# Altium schematic symbol library IC.SchLib: 114 symbols (part 2 of 2)
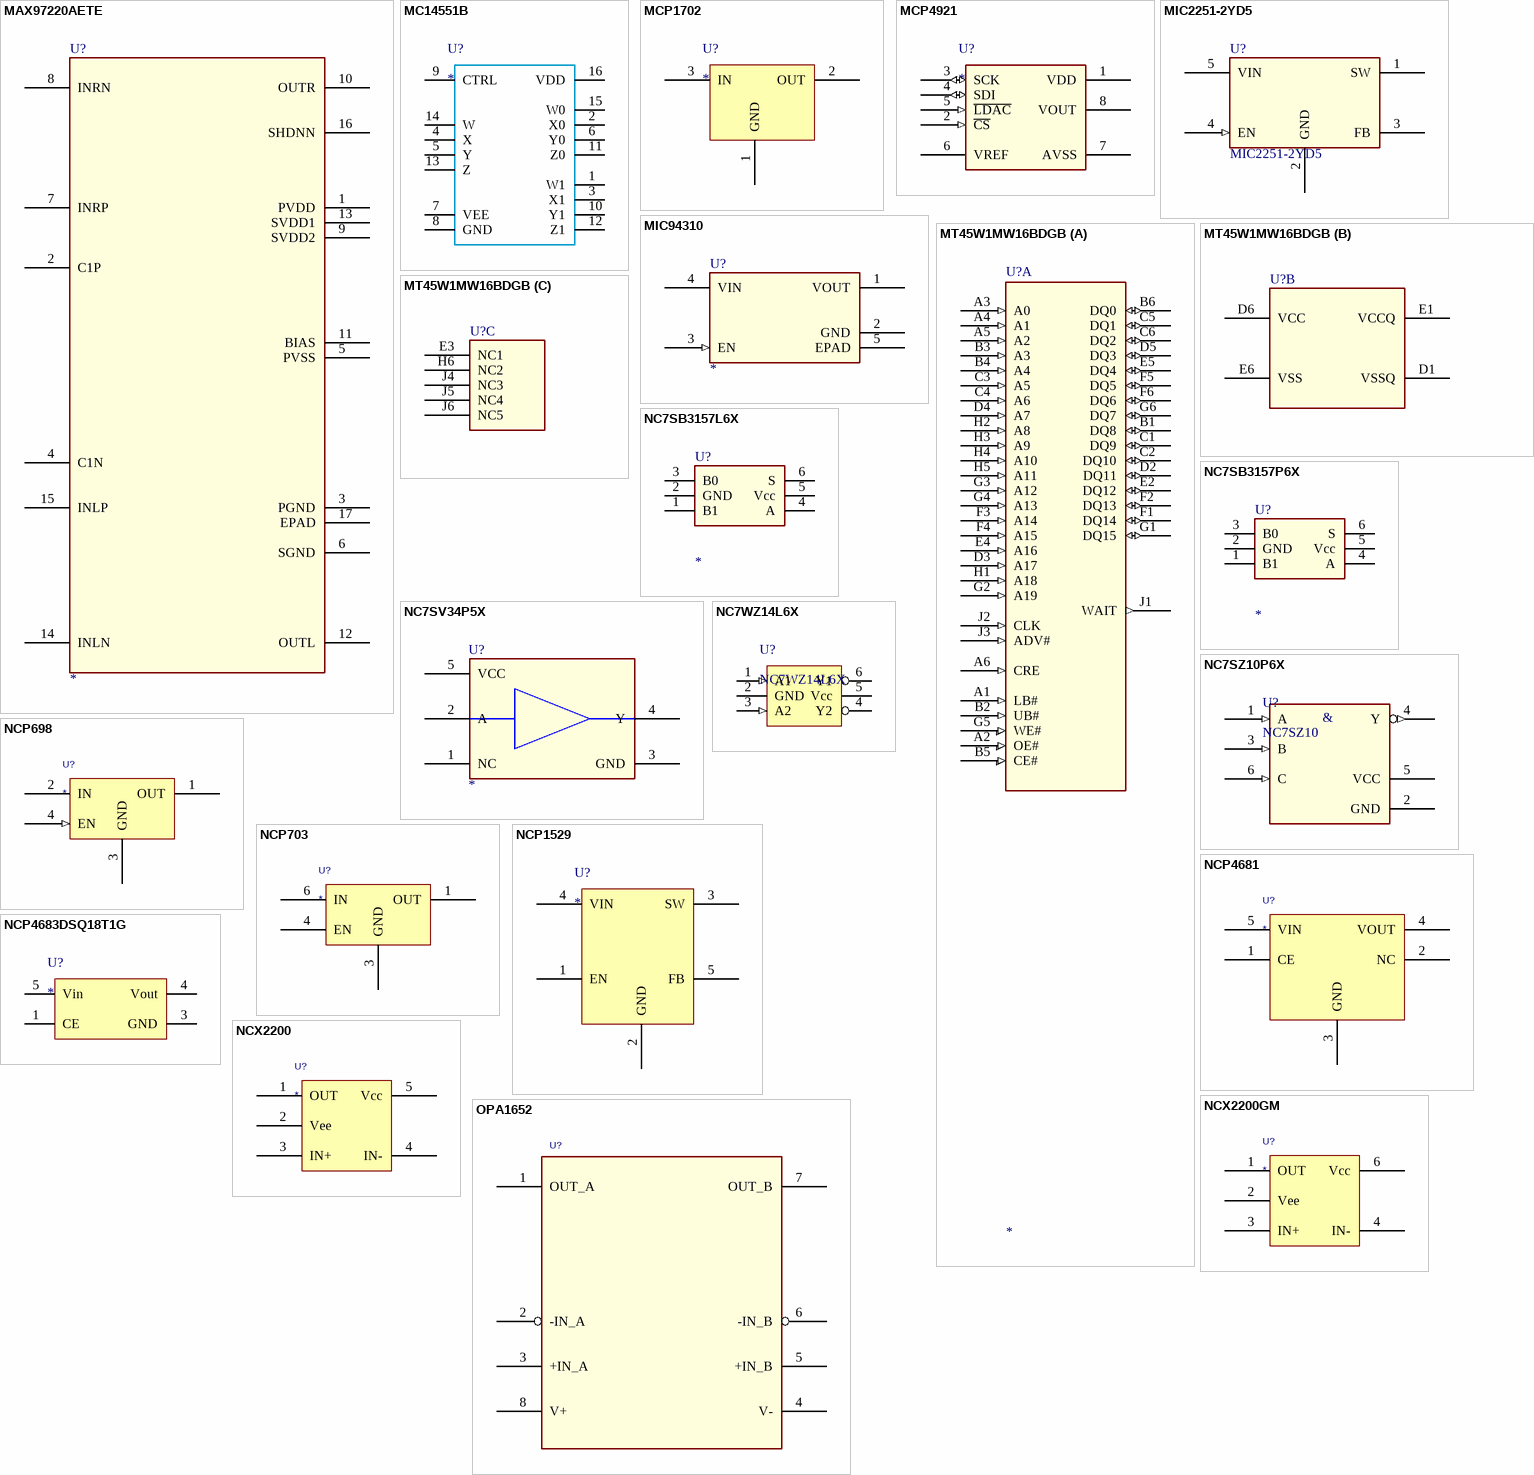
[diagram p22: symbols MAX97220AETE to OPA1652]

## MT45W1MW16BDGB
designator U?
SWAP_INFO: (S1+S2+S3); SPLIT_INST: TRUE
part A pins: A1 LB# (in), A2 OE# (in), A3 A0 (in), A4 A1 (in), A5 A2 (in), A6 CRE (in), B1 DQ8 (io), B2 UB# (in), B3 A3 (in), B4 A4 (in), B5 CE# (in), B6 DQ0 (io), C1 DQ9 (io), C2 DQ10 (io), C3 A5 (in), C4 A6 (in), C5 DQ1 (io), C6 DQ2 (io), D2 DQ11 (io), D3 A17 (in), D4 A7 (in), D5 DQ3 (io), E2 DQ12 (io), E4 A16 (in), E5 DQ4 (io), F1 DQ14 (io), F2 DQ13 (io), F3 A14 (in), F4 A15 (in), F5 DQ5 (io), F6 DQ6 (io), G1 DQ15 (io), G2 A19 (in), G3 A12 (in), G4 A13 (in), G5 WE# (in), G6 DQ7 (io), H1 A18 (in), H2 A8 (in), H3 A9 (in), H4 A10 (in), H5 A11 (in), J1 WAIT (out), J2 CLK (in), J3 ADV# (in)
part B pins: D1 VSSQ (power), D6 VCC (power), E1 VCCQ (power), E6 VSS (power)
part C pins: E3 NC1, H6 NC2, J4 NC3, J5 NC4, J6 NC5

## NC7SB3157L6X
designator U?
IC SWITCH SPDT SC70-6
pins: 1 B1, 2 GND (power), 3 B0, 4 A, 5 Vcc (power), 6 S

## NC7SB3157P6X
designator U?
IC SWITCH SPDT SC70-6
pins: 1 B1, 2 GND (power), 3 B0, 4 A, 5 Vcc (power), 6 S

## NC7SV34P5X
designator U?
pins: 1 NC, 2 A, 3 GND, 4 Y, 5 VCC

## NC7SZ10P6X
designator U?, comment NC7SZ10
3-Input NAND Gate
pins: 1 A (in), 2 GND (power), 3 B (in), 4 Y (out), 5 VCC (power), 6 C (in)
text: &

## NC7WZ14L6X
designator U?
pins: 1 A1 (in), 2 GND (power), 3 A2 (in), 4 Y2, 5 Vcc (power), 6 Y1

## NCP698
designator U?
150 mA, Ultra-Low Quiescent  Current, LDO Voltage Regulator
pins: 1 OUT (power), 2 IN (power), 3 GND (power), 4 EN (in)

## NCP703
designator U?
300 mA, Ultra-Low Quiescent  Current, IQ 12 A, Ultra-Low  Noise, LDO Voltage Regulator
pins: 1 OUT, 3 GND, 4 EN, 6 IN

## NCP1529
designator U?
pins: 1 EN, 2 GND, 3 SW, 4 VIN, 5 FB

## NCP4681
designator U?
pins: 1 CE, 2 NC, 3 GND, 4 VOUT, 5 VIN

## NCP4683DSQ18T1G
designator U?
pins: 1 CE, 3 GND, 4 Vout, 5 Vin

## NCX2200
designator U?
Low voltage comparator
pins: 1 OUT, 2 Vee, 3 IN+, 4 IN-, 5 Vcc

## NCX2200GM
designator U?
Low voltage comparator
pins: 1 OUT, 2 Vee, 3 IN+, 4 IN-, 6 Vcc (power)

## OPA1652
designator U?
IC, LOW NOISE AND DISTORTION GP FET-INPUT AUDIO OPAMP 5x6.5mm, VSOP8, RoHS
pins: 1 OUT_A, 2 -IN_A, 3 +IN_A, 4 V-, 5 +IN_B, 6 -IN_B, 7 OUT_B, 8 V+

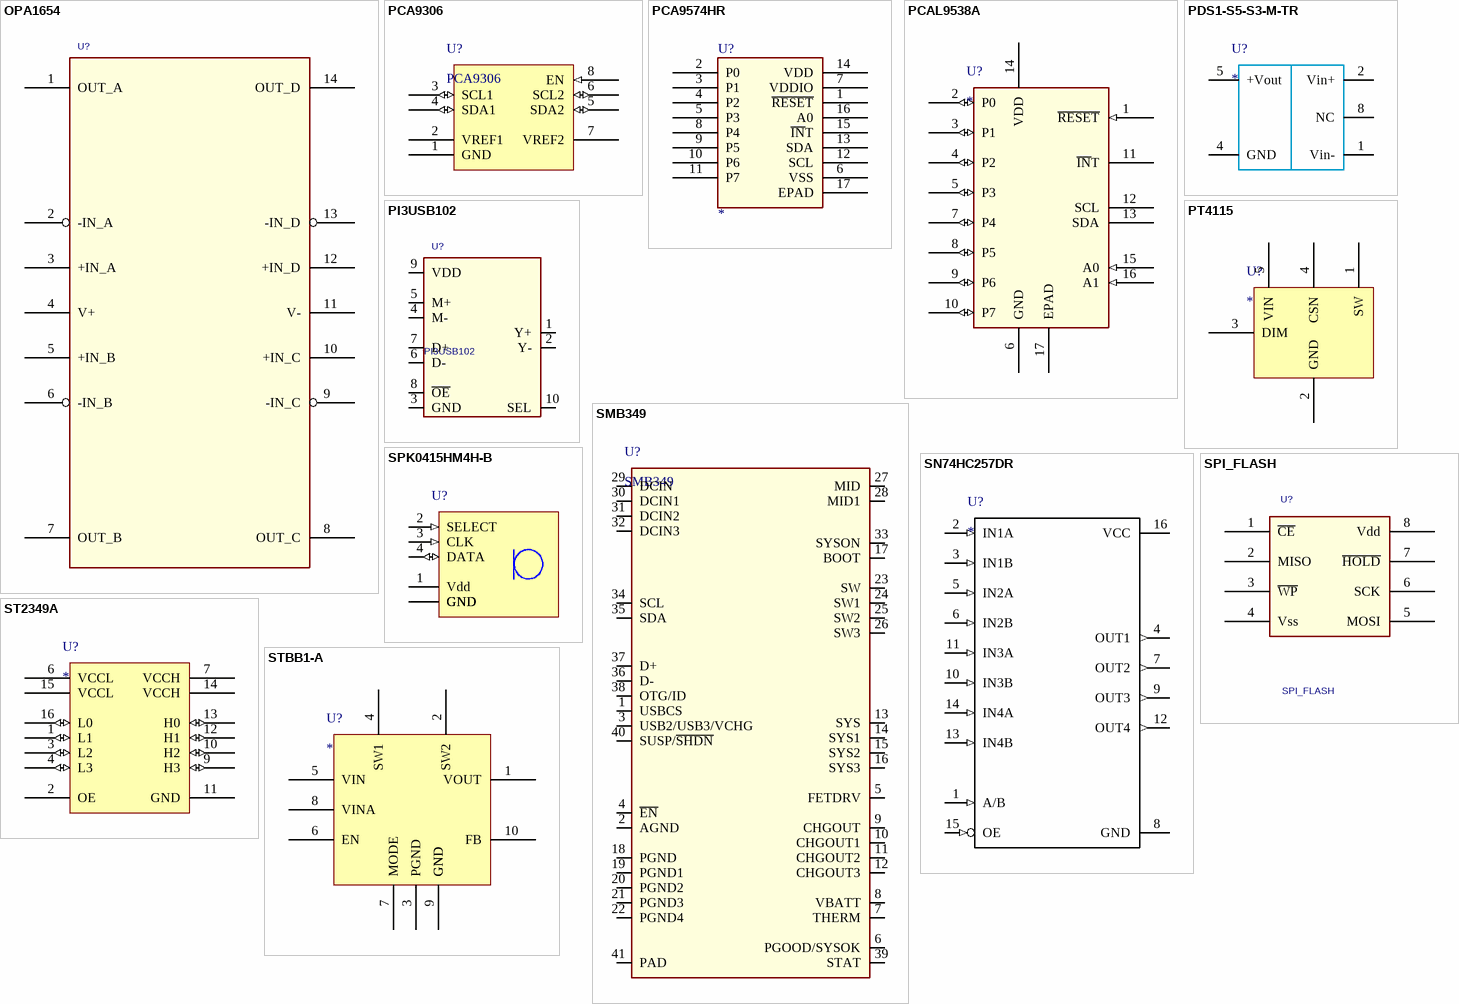
[diagram p16: symbols OPA1654 to STBB1-A]

## OPA1654
designator U?
IC, LOW NOISE AND DISTORTION GP FET-INPUT AUDIO OPAMP 5x6.5mm, 14-TSSOP, RoHS
pins: 1 OUT_A, 2 -IN_A, 3 +IN_A, 4 V+, 5 +IN_B, 6 -IN_B, 7 OUT_B, 8 OUT_C, 9 -IN_C, 10 +IN_C, 11 V-, 12 +IN_D, 13 -IN_D, 14 OUT_D

## PCA9306
designator U?
pins: 1 GND (power), 2 VREF1 (power), 3 SCL1 (io), 4 SDA1 (io), 5 SDA2 (io), 6 SCL2 (io), 7 VREF2 (power), 8 EN (in)

## PCA9574HR
designator U?
pins: 1 ~{RESET}, 2 P0, 3 P1, 4 P2, 5 P3, 6 VSS, 7 VDDIO, 8 P4, 9 P5, 10 P6, 11 P7, 12 SCL, 13 SDA, 14 VDD, 15 ~{IN}T, 16 A0, 17 EPAD

## PCAL9538A
designator U?
I/O EXPANDER
pins: 1 ~{RESET} (in), 2 P0 (io), 3 P1 (io), 4 P2 (io), 5 P3 (io), 6 GND, 7 P4 (io), 8 P5 (io), 9 P6 (io), 10 P7 (io), 11 ~{IN}T (oc), 12 SCL (oc), 13 SDA (oc), 14 VDD, 15 A0 (in), 16 A1 (in), 17 EPAD

## PDS1-S5-S3-M-TR
designator U?
pins: 1 Vin-, 2 Vin+, 4 GND, 5 +Vout, 8 NC

## PI3USB102
designator U?
CRITICAL: YES; CLASS: IC; ROHS: YES
pins: 1 Y+, 2 Y-, 3 GND, 4 M-, 5 M+, 6 D-, 7 D+, 8 ~{OE}, 9 VDD, 10 SEL

## PT4115
designator U?
PT4115, 30V 1.2A Step-Down LED Drive
pins: 1 SW, 2 GND, 3 DIM, 4 CSN, 5 VIN

## SMB349
designator U?
pins: 1 USBCS, 2 AGND, 3 USB2/USB3/VCHG, 4 ~{EN}, 5 FETDRV, 6 PGOOD/SYSOK, 7 THERM, 8 VBATT, 9 CHGOUT, 10 CHGOUT1, 11 CHGOUT2, 12 CHGOUT3, 13 SYS, 14 SYS1, 15 SYS2, 16 SYS3, 17 BOOT, 18 PGND, 19 PGND1, 20 PGND2, 21 PGND3, 22 PGND4, 23 SW, 24 SW1, 25 SW2, 26 SW3, 27 MID, 28 MID1, 29 DCIN, 30 DCIN1, 31 DCIN2, 32 DCIN3, 33 SYSON, 34 SCL, 35 SDA, 36 D-, 37 D+, 38 OTG/ID, 39 STAT, 40 SUSP/~{SHDN}, 41 PAD

## SN74HC257DR
designator U?
pins: 1 A/B (in), 2 IN1A (in), 3 IN1B (in), 4 OUT1 (out), 5 IN2A (in), 6 IN2B (in), 7 OUT2 (out), 8 GND, 9 OUT3 (out), 10 IN3B (in), 11 IN3A (in), 12 OUT4 (out), 13 IN4B (in), 14 IN4A (in), 15 OE (in), 16 VCC

## SPI_FLASH
designator U?
pins: 1 ~{CE}, 2 MISO, 3 ~{WP}, 4 Vss, 5 MOSI, 6 SCK, 7 ~{HOLD}, 8 Vdd

## SPK0415HM4H-B
designator U?  (value not drawn)
Digital High-SNR SiSonic  TM  Microphone
pins: 1 Vdd (power), 2 SELECT (in), 3 CLK (in), 4 DATA (io), 5 GND, 6 GND, 7 GND, 8 GND

## ST2349A
designator U?
pins: 1 L1 (io), 2 OE, 3 L2 (io), 4 L3 (io), 6 VCCL (power), 7 VCCH (power), 9 H3 (io), 10 H2 (io), 11 GND, 12 H1 (io), 13 H0 (io), 14 VCCH (power), 15 VCCL (power), 16 L0 (io)

## STBB1-A
designator U?
pins: 1 VOUT, 2 SW2, 3 PGND, 4 SW1, 5 VIN, 6 EN, 7 MODE, 8 VINA, 9 GND, 10 FB, 11 GND

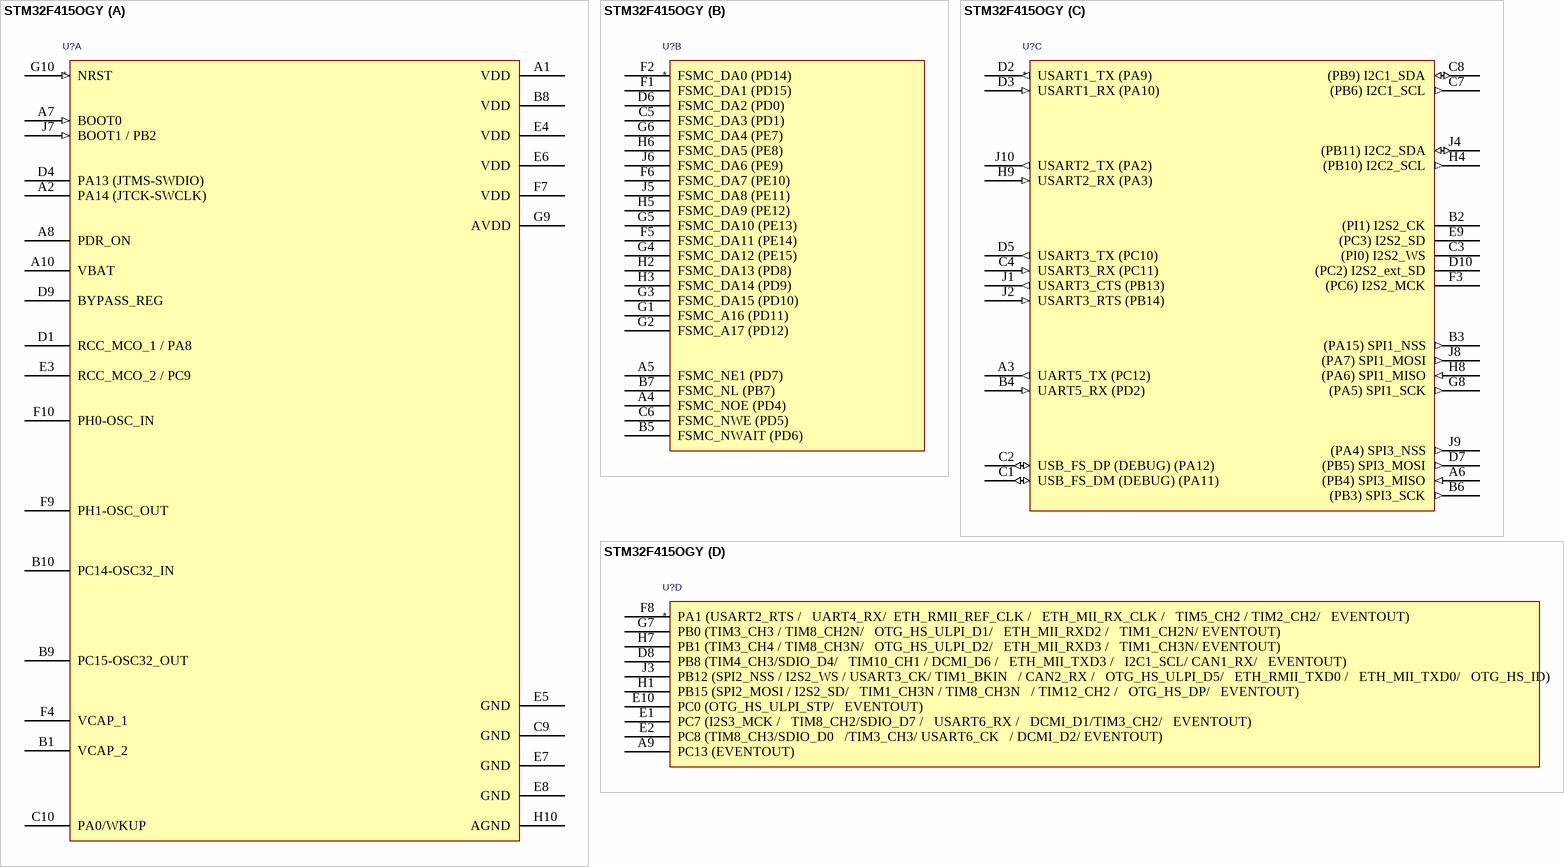
[diagram p17: symbol STM32F415OGY]

## STM32F415OGY
designator U?
part A pins: A1 VDD, A2 PA14 (JTCK-SWCLK), A7 BOOT0 (in), A8 PDR_ON, A10 VBAT, B1 VCAP_2, B8 VDD, B9 PC15-OSC32_OUT, B10 PC14-OSC32_IN, C9 GND, C10 PA0/WKUP, D1 RCC_MCO_1 / PA8, D4 PA13 (JTMS-SWDIO), D9 BYPASS_REG, E3 RCC_MCO_2 / PC9, E4 VDD, E5 GND, E6 VDD, E7 GND, E8 GND, F4 VCAP_1, F7 VDD, F9 PH1-OSC_OUT, F10 PH0-OSC_IN, G9 AVDD, G10 NRST (in), H10 AGND, J7 BOOT1 / PB2 (in)
part B pins: A4 FSMC_NOE (PD4), A5 FSMC_NE1 (PD7), B5 FSMC_NWAIT (PD6), B7 FSMC_NL (PB7), C5 FSMC_DA3 (PD1), C6 FSMC_NWE (PD5), D6 FSMC_DA2 (PD0), F1 FSMC_DA1 (PD15), F2 FSMC_DA0 (PD14), F5 FSMC_DA11 (PE14), F6 FSMC_DA7 (PE10), G1 FSMC_A16 (PD11), G2 FSMC_A17 (PD12), G3 FSMC_DA15 (PD10), G4 FSMC_DA12 (PE15), G5 FSMC_DA10 (PE13), G6 FSMC_DA4 (PE7), H2 FSMC_DA13 (PD8), H3 FSMC_DA14 (PD9), H5 FSMC_DA9 (PE12), H6 FSMC_DA5 (PE8), J5 FSMC_DA8 (PE11), J6 FSMC_DA6 (PE9)
part C pins: A3 UART5_TX (PC12) (out), A6 (PB4) SPI3_MISO (in), B2 (PI1) I2S2_CK, B3 (PA15) SPI1_NSS (out), B4 UART5_RX (PD2) (in), B6 (PB3) SPI3_SCK (out), C1 USB_FS_DM (DEBUG) (PA11) (io), C2 USB_FS_DP (DEBUG) (PA12) (io), C3 (PI0) I2S2_WS, C4 USART3_RX (PC11) (in), C7 (PB6) I2C1_SCL (out), C8 (PB9) I2C1_SDA (io), D2 USART1_TX (PA9) (out), D3 USART1_RX (PA10) (in), D5 USART3_TX (PC10) (out), D7 (PB5) SPI3_MOSI (out), D10 (PC2) I2S2_ext_SD, E9 (PC3) I2S2_SD, F3 (PC6) I2S2_MCK, G8 (PA5) SPI1_SCK (out), H4 (PB10) I2C2_SCL (out), H8 (PA6) SPI1_MISO (in), H9 USART2_RX (PA3) (in), J1 USART3_CTS (PB13) (out), J2 USART3_RTS (PB14) (in), J4 (PB11) I2C2_SDA (io), J8 (PA7) SPI1_MOSI (out), J9 (PA4) SPI3_NSS (out), J10 USART2_TX (PA2) (out)
part D pins: A9 PC13 (EVENTOUT), D8 PB8 (TIM4_CH3/SDIO_D4/   TIM10_CH1 / DCMI_D6 /   ETH_MII_TXD3 /   I2C1_SCL/ CAN1_RX/   EVENTOUT), E1 PC7 (I2S3_MCK /   TIM8_CH2/SDIO_D7 /   USART6_RX /   DCMI_D1/TIM3_CH2/   EVENTOUT), E2 PC8 (TIM8_CH3/SDIO_D0   /TIM3_CH3/ USART6_CK   / DCMI_D2/ EVENTOUT), E10 PC0 (OTG_HS_ULPI_STP/   EVENTOUT), F8 PA1 (USART2_RTS /   UART4_RX/  ETH_RMII_REF_CLK /   ETH_MII_RX_CLK /   TIM5_CH2 / TIM2_CH2/   EVENTOUT), G7 PB0 (TIM3_CH3 / TIM8_CH2N/   OTG_HS_ULPI_D1/   ETH_MII_RXD2 /   TIM1_CH2N/ EVENTOUT), H1 PB15 (SPI2_MOSI / I2S2_SD/   TIM1_CH3N / TIM8_CH3N   / TIM12_CH2 /   OTG_HS_DP/   EVENTOUT), H7 PB1 (TIM3_CH4 / TIM8_CH3N/   OTG_HS_ULPI_D2/   ETH_MII_RXD3 /   TIM1_CH3N/ EVENTOUT), J3 PB12 (SPI2_NSS / I2S2_WS / USART3_CK/ TIM1_BKIN   / CAN2_RX /   OTG_HS_ULPI_D5/   ETH_RMII_TXD0 /   ETH_MII_TXD0/   OTG_HS_ID)

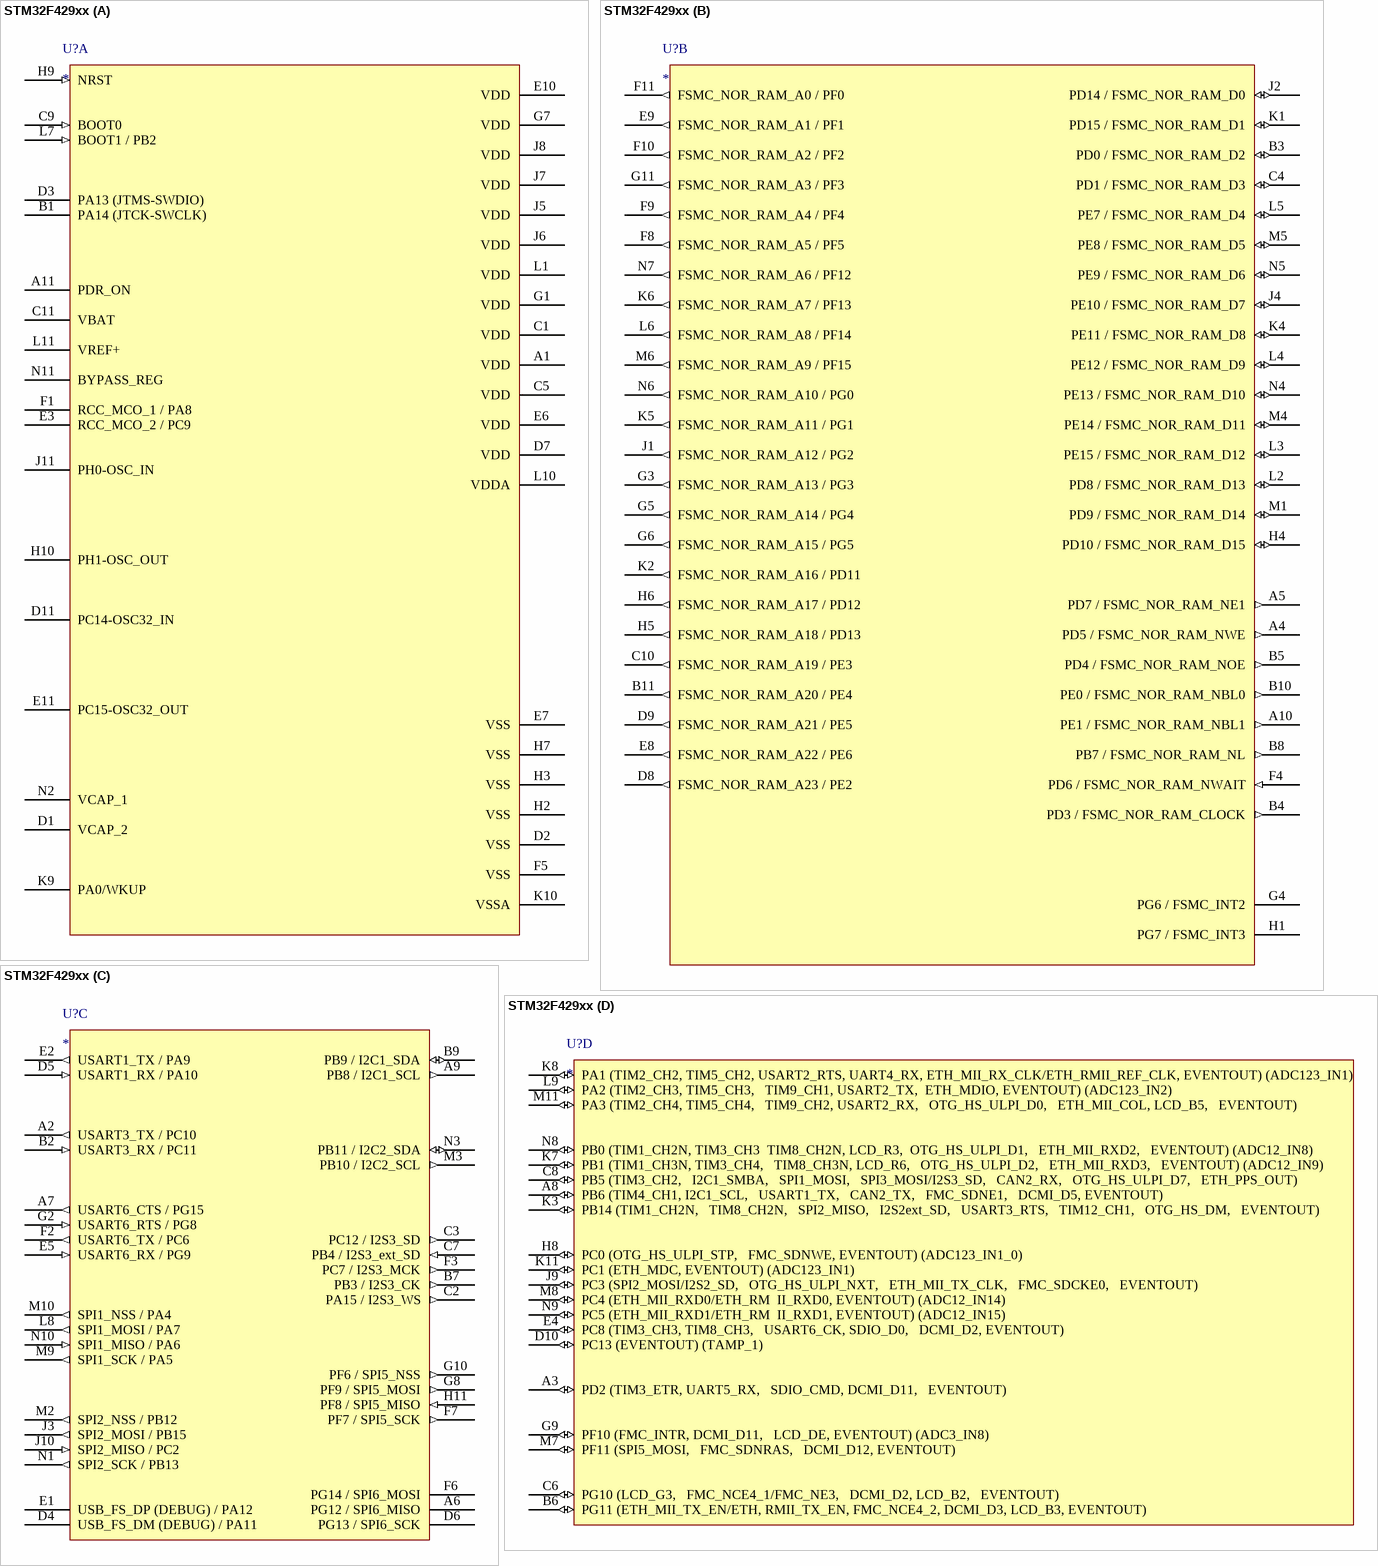
[diagram p18: symbol STM32F429xx]

## STM32F429xx
designator U?
ARM Cortex-M4 32b MCU
part A pins: A1 VDD, A11 PDR_ON, B1 PA14 (JTCK-SWCLK), C1 VDD, C5 VDD, C9 BOOT0 (in), C11 VBAT, D1 VCAP_2, D2 VSS, D3 PA13 (JTMS-SWDIO), D7 VDD, D11 PC14-OSC32_IN, E3 RCC_MCO_2 / PC9, E6 VDD, E7 VSS, E10 VDD, E11 PC15-OSC32_OUT, F1 RCC_MCO_1 / PA8, F5 VSS, G1 VDD, G7 VDD, H2 VSS, H3 VSS, H7 VSS, H9 NRST (in), H10 PH1-OSC_OUT, J5 VDD, J6 VDD, J7 VDD, J8 VDD, J11 PH0-OSC_IN, K9 PA0/WKUP, K10 VSSA, L1 VDD, L7 BOOT1 / PB2 (in), L10 VDDA, L11 VREF+, N2 VCAP_1, N11 BYPASS_REG
part B pins: A4 PD5 / FSMC_NOR_RAM_NWE (out), A5 PD7 / FSMC_NOR_RAM_NE1 (out), A10 PE1 / FSMC_NOR_RAM_NBL1 (out), B3 PD0 / FSMC_NOR_RAM_D2 (io), B4 PD3 / FSMC_NOR_RAM_CLOCK (out), B5 PD4 / FSMC_NOR_RAM_NOE (out), B8 PB7 / FSMC_NOR_RAM_NL (out), B10 PE0 / FSMC_NOR_RAM_NBL0 (out), B11 FSMC_NOR_RAM_A20 / PE4 (out), C4 PD1 / FSMC_NOR_RAM_D3 (io), C10 FSMC_NOR_RAM_A19 / PE3 (out), D8 FSMC_NOR_RAM_A23 / PE2 (out), D9 FSMC_NOR_RAM_A21 / PE5 (out), E8 FSMC_NOR_RAM_A22 / PE6 (out), E9 FSMC_NOR_RAM_A1 / PF1 (out), F4 PD6 / FSMC_NOR_RAM_NWAIT (in), F8 FSMC_NOR_RAM_A5 / PF5 (out), F9 FSMC_NOR_RAM_A4 / PF4 (out), F10 FSMC_NOR_RAM_A2 / PF2 (out), F11 FSMC_NOR_RAM_A0 / PF0 (out), G3 FSMC_NOR_RAM_A13 / PG3 (out), G4 PG6 / FSMC_INT2, G5 FSMC_NOR_RAM_A14 / PG4 (out), G6 FSMC_NOR_RAM_A15 / PG5 (out), G11 FSMC_NOR_RAM_A3 / PF3 (out), H1 PG7 / FSMC_INT3, H4 PD10 / FSMC_NOR_RAM_D15 (io), H5 FSMC_NOR_RAM_A18 / PD13 (out), H6 FSMC_NOR_RAM_A17 / PD12 (out), J1 FSMC_NOR_RAM_A12 / PG2 (out), J2 PD14 / FSMC_NOR_RAM_D0 (io), J4 PE10 / FSMC_NOR_RAM_D7 (io), K1 PD15 / FSMC_NOR_RAM_D1 (io), K2 FSMC_NOR_RAM_A16 / PD11 (out), K4 PE11 / FSMC_NOR_RAM_D8 (io), K5 FSMC_NOR_RAM_A11 / PG1 (out), K6 FSMC_NOR_RAM_A7 / PF13 (out), L2 PD8 / FSMC_NOR_RAM_D13 (io), L3 PE15 / FSMC_NOR_RAM_D12 (io), L4 PE12 / FSMC_NOR_RAM_D9 (io), L5 PE7 / FSMC_NOR_RAM_D4 (io), L6 FSMC_NOR_RAM_A8 / PF14 (out), M1 PD9 / FSMC_NOR_RAM_D14 (io), M4 PE14 / FSMC_NOR_RAM_D11 (io), M5 PE8 / FSMC_NOR_RAM_D5 (io), M6 FSMC_NOR_RAM_A9 / PF15 (out), N4 PE13 / FSMC_NOR_RAM_D10 (io), N5 PE9 / FSMC_NOR_RAM_D6 (io), N6 FSMC_NOR_RAM_A10 / PG0 (out), N7 FSMC_NOR_RAM_A6 / PF12 (out)
part C pins: A2 USART3_TX / PC10 (out), A6 PG12 / SPI6_MISO, A7 USART6_CTS / PG15 (out), A9 PB8 / I2C1_SCL (out), B2 USART3_RX / PC11 (in), B7 PB3 / I2S3_CK (out), B9 PB9 / I2C1_SDA (io), C2 PA15 / I2S3_WS (out), C3 PC12 / I2S3_SD (out), C7 PB4 / I2S3_ext_SD (in), D4 USB_FS_DM (DEBUG) / PA11, D5 USART1_RX / PA10 (in), D6 PG13 / SPI6_SCK, E1 USB_FS_DP (DEBUG) / PA12, E2 USART1_TX / PA9 (out), E5 USART6_RX / PG9 (in), F2 USART6_TX / PC6 (out), F3 PC7 / I2S3_MCK (out), F6 PG14 / SPI6_MOSI, F7 PF7 / SPI5_SCK (out), G2 USART6_RTS / PG8 (in), G8 PF9 / SPI5_MOSI (out), G10 PF6 / SPI5_NSS (out), H11 PF8 / SPI5_MISO (in), J3 SPI2_MOSI / PB15 (out), J10 SPI2_MISO / PC2 (in), L8 SPI1_MOSI / PA7 (out), M2 SPI2_NSS / PB12 (out), M3 PB10 / I2C2_SCL (out), M9 SPI1_SCK / PA5 (out), M10 SPI1_NSS / PA4 (out), N1 SPI2_SCK / PB13 (out), N3 PB11 / I2C2_SDA (io), N10 SPI1_MISO / PA6  (in)
part D pins: A3 PD2 (TIM3_ETR, UART5_RX,   SDIO_CMD, DCMI_D11,   EVENTOUT) (io), A8 PB6 (TIM4_CH1, I2C1_SCL,   USART1_TX,   CAN2_TX,   FMC_SDNE1,   DCMI_D5, EVENTOUT) (io), B6 PG11 (ETH_MII_TX_EN/ETH, RMII_TX_EN, FMC_NCE4_2, DCMI_D3, LCD_B3, EVENTOUT) (io), C6 PG10 (LCD_G3,   FMC_NCE4_1/FMC_NE3,   DCMI_D2, LCD_B2,   EVENTOUT) (io), C8 PB5 (TIM3_CH2,   I2C1_SMBA,   SPI1_MOSI,   SPI3_MOSI/I2S3_SD,   CAN2_RX,   OTG_HS_ULPI_D7,   ETH_PPS_OUT) (io), D10 PC13 (EVENTOUT) (TAMP_1) (io), E4 PC8 (TIM3_CH3, TIM8_CH3,   USART6_CK, SDIO_D0,   DCMI_D2, EVENTOUT) (io), G9 PF10 (FMC_INTR, DCMI_D11,   LCD_DE, EVENTOUT) (ADC3_IN8) (io), H8 PC0 (OTG_HS_ULPI_STP,   FMC_SDNWE, EVENTOUT) (ADC123_IN1_0) (io), J9 PC3 (SPI2_MOSI/I2S2_SD,   OTG_HS_ULPI_NXT,   ETH_MII_TX_CLK,   FMC_SDCKE0,   EVENTOUT) (io), K3 PB14 (TIM1_CH2N,   TIM8_CH2N,   SPI2_MISO,   I2S2ext_SD,   USART3_RTS,   TIM12_CH1,   OTG_HS_DM,   EVENTOUT) (io), K7 PB1 (TIM1_CH3N, TIM3_CH4,   TIM8_CH3N, LCD_R6,   OTG_HS_ULPI_D2,   ETH_MII_RXD3,   EVENTOUT) (ADC12_IN9) (io), K8 PA1 (TIM2_CH2, TIM5_CH2, USART2_RTS, UART4_RX, ETH_MII_RX_CLK/ETH_RMII_REF_CLK, EVENTOUT) (ADC123_IN1) (io), K11 PC1 (ETH_MDC, EVENTOUT) (ADC123_IN1) (io), L9 PA2 (TIM2_CH3, TIM5_CH3,   TIM9_CH1, USART2_TX,  ETH_MDIO, EVENTOUT) (ADC123_IN2) (io), M7 PF11 (SPI5_MOSI,   FMC_SDNRAS,   DCMI_D12, EVENTOUT) (io), M8 PC4 (ETH_MII_RXD0/ETH_RM  II_RXD0, EVENTOUT) (ADC12_IN14) (io), M11 PA3 (TIM2_CH4, TIM5_CH4,   TIM9_CH2, USART2_RX,   OTG_HS_ULPI_D0,   ETH_MII_COL, LCD_B5,   EVENTOUT) (io), N8 PB0 (TIM1_CH2N, TIM3_CH3  TIM8_CH2N, LCD_R3,  OTG_HS_ULPI_D1,   ETH_MII_RXD2,   EVENTOUT) (ADC12_IN8) (io), N9 PC5 (ETH_MII_RXD1/ETH_RM  II_RXD1, EVENTOUT) (ADC12_IN15) (io)

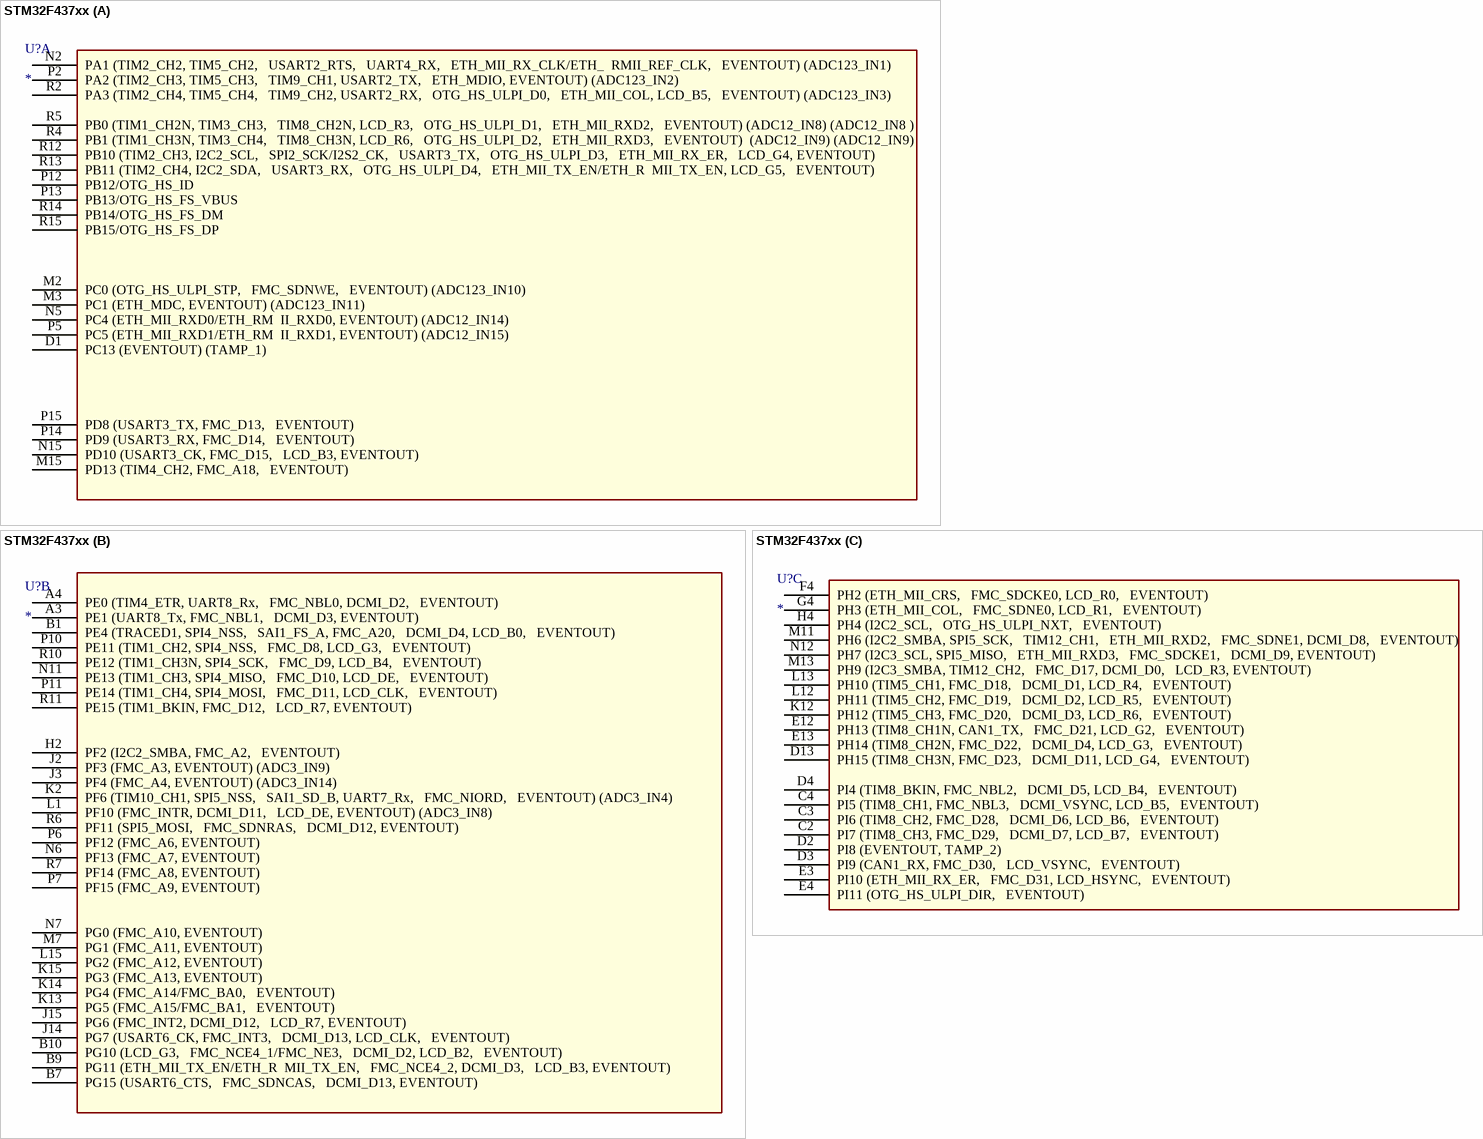
[diagram p19: symbol STM32F437xx]

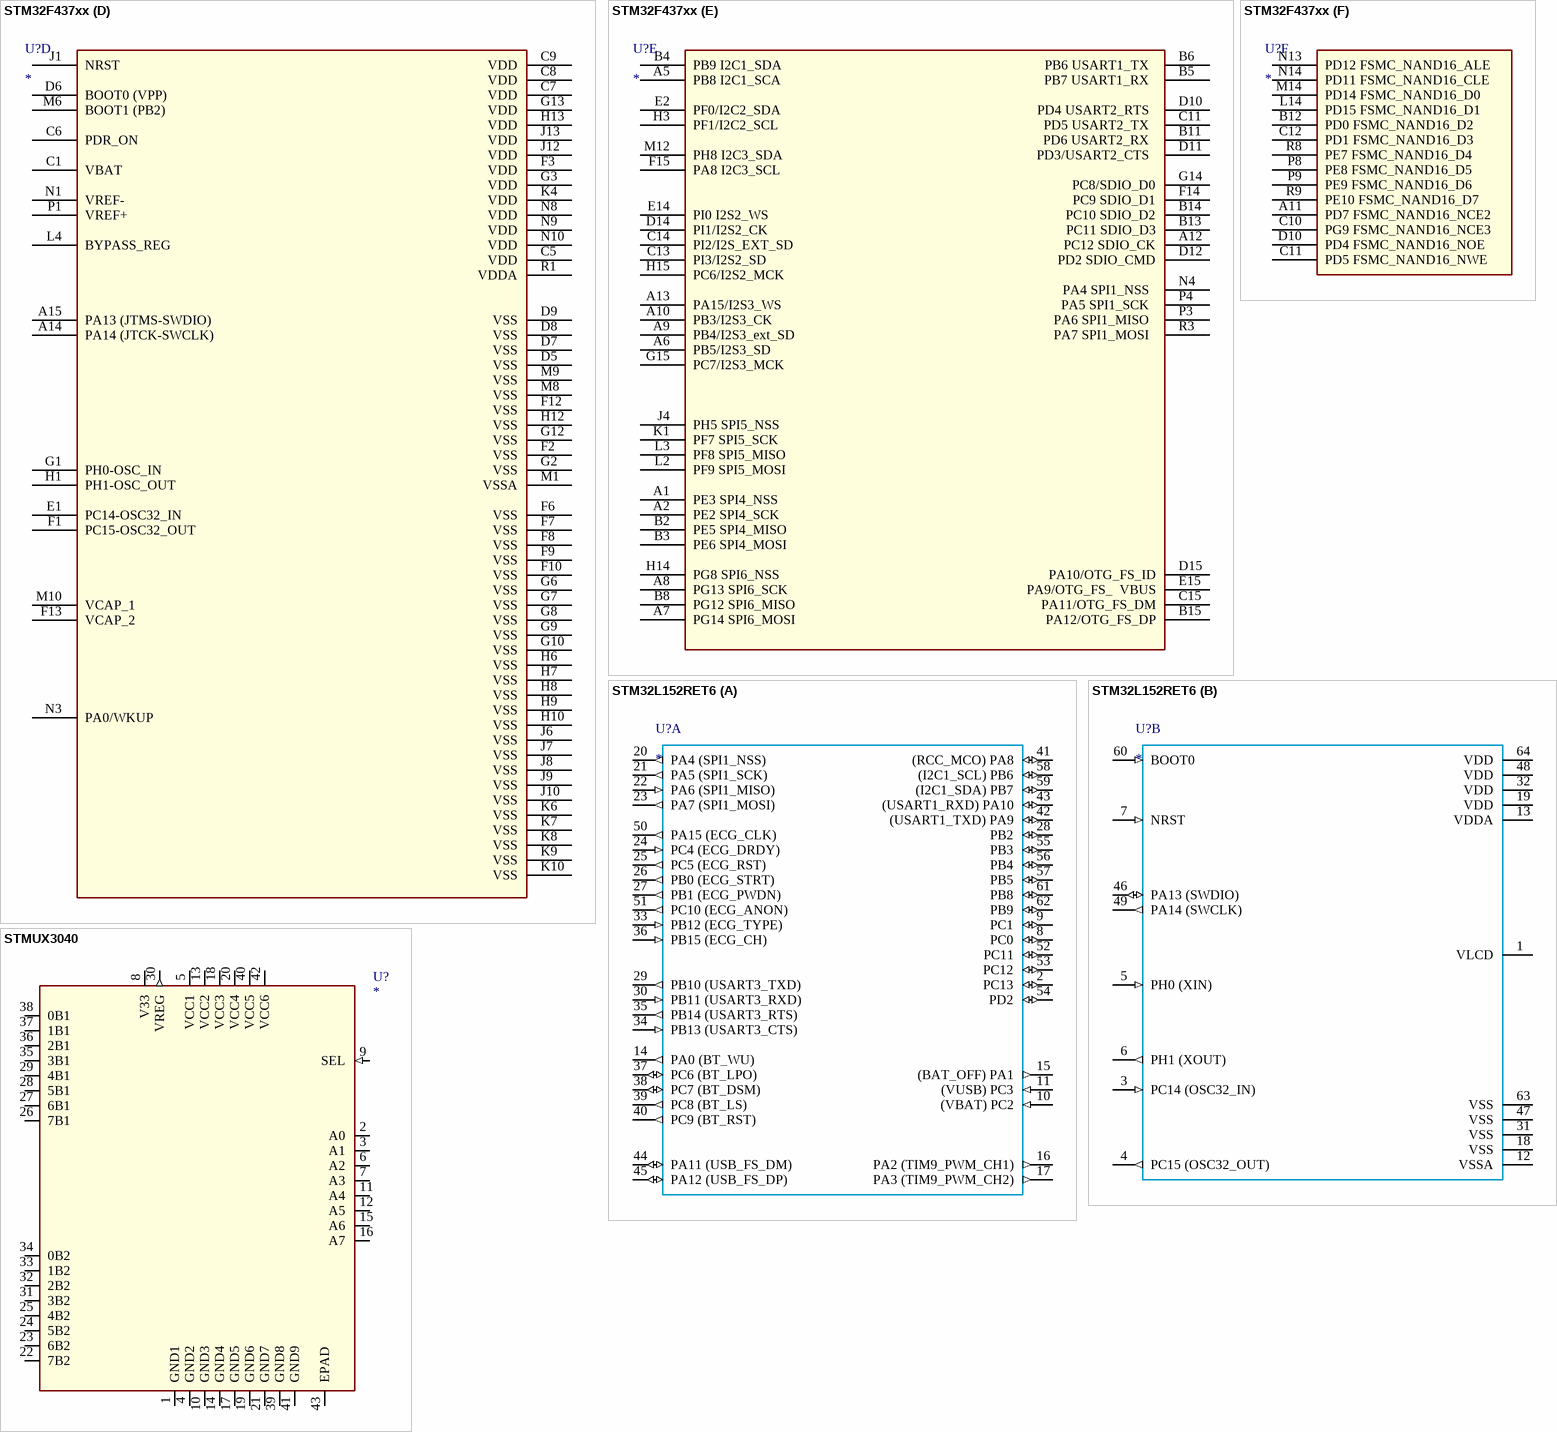
[diagram p20: symbols STM32F437xx to STMUX3040]

## STM32F437xx
designator U?
part A pins: D1 PC13 (EVENTOUT) (TAMP_1), M2 PC0 (OTG_HS_ULPI_STP,   FMC_SDNWE,   EVENTOUT) (ADC123_IN10), M3 PC1 (ETH_MDC, EVENTOUT) (ADC123_IN11), M15 PD13 (TIM4_CH2, FMC_A18,   EVENTOUT), N2 PA1 (TIM2_CH2, TIM5_CH2,   USART2_RTS,   UART4_RX,   ETH_MII_RX_CLK/ETH_  RMII_REF_CLK,   EVENTOUT) (ADC123_IN1), N5 PC4 (ETH_MII_RXD0/ETH_RM  II_RXD0, EVENTOUT) (ADC12_IN14), N15 PD10 (USART3_CK, FMC_D15,   LCD_B3, EVENTOUT), P2 PA2 (TIM2_CH3, TIM5_CH3,   TIM9_CH1, USART2_TX,   ETH_MDIO, EVENTOUT) (ADC123_IN2), P5 PC5 (ETH_MII_RXD1/ETH_RM  II_RXD1, EVENTOUT) (ADC12_IN15), P12 PB12/OTG_HS_ID, P13 PB13/OTG_HS_FS_VBUS, P14 PD9 (USART3_RX, FMC_D14,   EVENTOUT), P15 PD8 (USART3_TX, FMC_D13,   EVENTOUT), R2 PA3 (TIM2_CH4, TIM5_CH4,   TIM9_CH2, USART2_RX,   OTG_HS_ULPI_D0,   ETH_MII_COL, LCD_B5,   EVENTOUT) (ADC123_IN3), R4 PB1 (TIM1_CH3N, TIM3_CH4,   TIM8_CH3N, LCD_R6,   OTG_HS_ULPI_D2,   ETH_MII_RXD3,   EVENTOUT)  (ADC12_IN9) (ADC12_IN9), R5 PB0 (TIM1_CH2N, TIM3_CH3,   TIM8_CH2N, LCD_R3,   OTG_HS_ULPI_D1,   ETH_MII_RXD2,   EVENTOUT) (ADC12_IN8) (ADC12_IN8 ), R12 PB10 (TIM2_CH3, I2C2_SCL,   SPI2_SCK/I2S2_CK,   USART3_TX,   OTG_HS_ULPI_D3,   ETH_MII_RX_ER,   LCD_G4, EVENTOUT), R13 PB11 (TIM2_CH4, I2C2_SDA,   USART3_RX,   OTG_HS_ULPI_D4,   ETH_MII_TX_EN/ETH_R  MII_TX_EN, LCD_G5,   EVENTOUT), R14 PB14/OTG_HS_FS_DM, R15 PB15/OTG_HS_FS_DP
part B pins: A3 PE1 (UART8_Tx, FMC_NBL1,   DCMI_D3, EVENTOUT), A4 PE0 (TIM4_ETR, UART8_Rx,   FMC_NBL0, DCMI_D2,   EVENTOUT), B1 PE4 (TRACED1, SPI4_NSS,   SAI1_FS_A, FMC_A20,   DCMI_D4, LCD_B0,   EVENTOUT), B7 PG15 (USART6_CTS,   FMC_SDNCAS,   DCMI_D13, EVENTOUT), B9 PG11 (ETH_MII_TX_EN/ETH_R  MII_TX_EN,   FMC_NCE4_2, DCMI_D3,   LCD_B3, EVENTOUT), B10 PG10 (LCD_G3,   FMC_NCE4_1/FMC_NE3,   DCMI_D2, LCD_B2,   EVENTOUT), H2 PF2 (I2C2_SMBA, FMC_A2,   EVENTOUT), J2 PF3 (FMC_A3, EVENTOUT) (ADC3_IN9), J3 PF4 (FMC_A4, EVENTOUT) (ADC3_IN14), J14 PG7 (USART6_CK, FMC_INT3,   DCMI_D13, LCD_CLK,   EVENTOUT), J15 PG6 (FMC_INT2, DCMI_D12,   LCD_R7, EVENTOUT), K2 PF6 (TIM10_CH1, SPI5_NSS,   SAI1_SD_B, UART7_Rx,   FMC_NIORD,   EVENTOUT) (ADC3_IN4), K13 PG5 (FMC_A15/FMC_BA1,   EVENTOUT), K14 PG4 (FMC_A14/FMC_BA0,   EVENTOUT), K15 PG3 (FMC_A13, EVENTOUT), L1 PF10 (FMC_INTR, DCMI_D11,   LCD_DE, EVENTOUT) (ADC3_IN8), L15 PG2 (FMC_A12, EVENTOUT), M7 PG1 (FMC_A11, EVENTOUT), N6 PF13 (FMC_A7, EVENTOUT), N7 PG0 (FMC_A10, EVENTOUT), N11 PE13 (TIM1_CH3, SPI4_MISO,   FMC_D10, LCD_DE,   EVENTOUT), P6 PF12 (FMC_A6, EVENTOUT), P7 PF15 (FMC_A9, EVENTOUT), P10 PE11 (TIM1_CH2, SPI4_NSS,   FMC_D8, LCD_G3,   EVENTOUT), P11 PE14 (TIM1_CH4, SPI4_MOSI,   FMC_D11, LCD_CLK,   EVENTOUT), R6 PF11 (SPI5_MOSI,   FMC_SDNRAS,   DCMI_D12, EVENTOUT), R7 PF14 (FMC_A8, EVENTOUT), R10 PE12 (TIM1_CH3N, SPI4_SCK,   FMC_D9, LCD_B4,   EVENTOUT), R11 PE15 (TIM1_BKIN, FMC_D12,   LCD_R7, EVENTOUT)
part C pins: C2 PI7 (TIM8_CH3, FMC_D29,   DCMI_D7, LCD_B7,   EVENTOUT), C3 PI6 (TIM8_CH2, FMC_D28,   DCMI_D6, LCD_B6,   EVENTOUT), C4 PI5 (TIM8_CH1, FMC_NBL3,   DCMI_VSYNC, LCD_B5,   EVENTOUT), D2 PI8 (EVENTOUT, TAMP_2), D3 PI9 (CAN1_RX, FMC_D30,   LCD_VSYNC,   EVENTOUT), D4 PI4 (TIM8_BKIN, FMC_NBL2,   DCMI_D5, LCD_B4,   EVENTOUT), D13 PH15 (TIM8_CH3N, FMC_D23,   DCMI_D11, LCD_G4,   EVENTOUT), E3 PI10 (ETH_MII_RX_ER,   FMC_D31, LCD_HSYNC,   EVENTOUT), E4 PI11 (OTG_HS_ULPI_DIR,   EVENTOUT), E12 PH13 (TIM8_CH1N, CAN1_TX,   FMC_D21, LCD_G2,   EVENTOUT), E13 PH14 (TIM8_CH2N, FMC_D22,   DCMI_D4, LCD_G3,   EVENTOUT), F4 PH2 (ETH_MII_CRS,   FMC_SDCKE0, LCD_R0,   EVENTOUT), G4 PH3 (ETH_MII_COL,   FMC_SDNE0, LCD_R1,   EVENTOUT), H4 PH4 (I2C2_SCL,   OTG_HS_ULPI_NXT,   EVENTOUT), K12 PH12 (TIM5_CH3, FMC_D20,   DCMI_D3, LCD_R6,   EVENTOUT), L12 PH11 (TIM5_CH2, FMC_D19,   DCMI_D2, LCD_R5,   EVENTOUT), L13 PH10 (TIM5_CH1, FMC_D18,   DCMI_D1, LCD_R4,   EVENTOUT), M11 PH6 (I2C2_SMBA, SPI5_SCK,   TIM12_CH1,   ETH_MII_RXD2,   FMC_SDNE1, DCMI_D8,   EVENTOUT), M13 PH9 (I2C3_SMBA, TIM12_CH2,   FMC_D17, DCMI_D0,   LCD_R3, EVENTOUT), N12 PH7 (I2C3_SCL, SPI5_MISO,   ETH_MII_RXD3,   FMC_SDCKE1,   DCMI_D9, EVENTOUT)
part D pins: A14 PA14 (JTCK-SWCLK), A15 PA13 (JTMS-SWDIO), C1 VBAT, C5 VDD, C6 PDR_ON, C7 VDD, C8 VDD, C9 VDD, D5 VSS, D6 BOOT0 (VPP), D7 VSS, D8 VSS, D9 VSS, E1 PC14-OSC32_IN, F1 PC15-OSC32_OUT, F2 VSS, F3 VDD, F6 VSS, F7 VSS, F8 VSS, F9 VSS, F10 VSS, F12 VSS, F13 VCAP_2, G1 PH0-OSC_IN, G2 VSS, G3 VDD, G6 VSS, G7 VSS, G8 VSS, G9 VSS, G10 VSS, G12 VSS, G13 VDD, H1 PH1-OSC_OUT, H6 VSS, H7 VSS, H8 VSS, H9 VSS, H10 VSS, H12 VSS, H13 VDD, J1 NRST, J6 VSS, J7 VSS, J8 VSS, J9 VSS, J10 VSS, J12 VDD, J13 VDD, K4 VDD, K6 VSS, K7 VSS, K8 VSS, K9 VSS, K10 VSS, L4 BYPASS_REG, M1 VSSA, M6 BOOT1 (PB2), M8 VSS, M9 VSS, M10 VCAP_1, N1 VREF-, N3 PA0/WKUP, N8 VDD, N9 VDD, N10 VDD, P1 VREF+, R1 VDDA
part E pins: A1 PE3 SPI4_NSS  , A2 PE2 SPI4_SCK  , A5 PB8 I2C1_SCA  , A6 PB5/I2S3_SD, A7 PG14 SPI6_MOSI  , A8 PG13 SPI6_SCK  , A9 PB4/I2S3_ext_SD, A10 PB3/I2S3_CK, A12 PC12 SDIO_CK, A13 PA15/I2S3_WS, B2 PE5 SPI4_MISO  , B3 PE6 SPI4_MOSI  , B4 PB9 I2C1_SDA, B5 PB7 USART1_RX  , B6 PB6 USART1_TX  , B8 PG12 SPI6_MISO  , B11 PD6 USART2_RX  , B13 PC11 SDIO_D3, B14 PC10 SDIO_D2, B15 PA12/OTG_FS_DP, C11 PD5 USART2_TX  , C13 PI3/I2S2_SD, C14 PI2/I2S_EXT_SD, C15 PA11/OTG_FS_DM, D10 PD4 USART2_RTS  , D11 PD3/USART2_CTS  , D12 PD2 SDIO_CMD, D14 PI1/I2S2_CK, D15 PA10/OTG_FS_ID, E2 PF0/I2C2_SDA, E14 PI0 I2S2_WS  , E15 PA9/OTG_FS_  VBUS, F14 PC9 SDIO_D1, F15 PA8 I2C3_SCL  , G14 PC8/SDIO_D0, G15 PC7/I2S3_MCK, H3 PF1/I2C2_SCL, H14 PG8 SPI6_NSS  , H15 PC6/I2S2_MCK, J4 PH5 SPI5_NSS  , K1 PF7 SPI5_SCK  , L2 PF9 SPI5_MOSI  , L3 PF8 SPI5_MISO  , M12 PH8 I2C3_SDA  , N4 PA4 SPI1_NSS  , P3 PA6 SPI1_MISO  , P4 PA5 SPI1_SCK  , R3 PA7 SPI1_MOSI  
part F pins: A11 PD7 FSMC_NAND16_NCE2  , B12 PD0 FSMC_NAND16_D2  , C10 PG9 FSMC_NAND16_NCE3  , C11 PD5 FSMC_NAND16_NWE  , C12 PD1 FSMC_NAND16_D3  , D10 PD4 FSMC_NAND16_NOE  , L14 PD15 FSMC_NAND16_D1  , M14 PD14 FSMC_NAND16_D0  , N13 PD12 FSMC_NAND16_ALE  , N14 PD11 FSMC_NAND16_CLE  , P8 PE8 FSMC_NAND16_D5  , P9 PE9 FSMC_NAND16_D6  , R8 PE7 FSMC_NAND16_D4  , R9 PE10 FSMC_NAND16_D7  

## STM32L152RET6
designator U?
part A pins: 2 PC13 (io), 8 PC0 (io), 9 PC1 (io), 10 (VBAT) PC2 (in), 11 (VUSB) PC3 (in), 14 PA0 (BT_WU) (out), 15 (BAT_OFF) PA1 (out), 16 PA2 (TIM9_PWM_CH1) (out), 17 PA3 (TIM9_PWM_CH2) (out), 20 PA4 (SPI1_NSS) (out), 21 PA5 (SPI1_SCK) (out), 22 PA6 (SPI1_MISO) (in), 23 PA7 (SPI1_MOSI) (out), 24 PC4 (ECG_DRDY) (in), 25 PC5 (ECG_RST) (out), 26 PB0 (ECG_STRT) (out), 27 PB1 (ECG_PWDN) (out), 28 PB2 (io), 29 PB10 (USART3_TXD) (out), 30 PB11 (USART3_RXD) (in), 33 PB12 (ECG_TYPE) (in), 34 PB13 (USART3_CTS) (in), 35 PB14 (USART3_RTS) (out), 36 PB15 (ECG_CH) (in), 37 PC6 (BT_LPO) (io), 38 PC7 (BT_DSM) (io), 39 PC8 (BT_LS) (out), 40 PC9 (BT_RST) (out), 41 (RCC_MCO) PA8 (io), 42 (USART1_TXD) PA9 (io), 43 (USART1_RXD) PA10 (io), 44 PA11 (USB_FS_DM) (io), 45 PA12 (USB_FS_DP) (io), 50 PA15 (ECG_CLK) (out), 51 PC10 (ECG_ANON) (out), 52 PC11 (io), 53 PC12 (io), 54 PD2 (io), 55 PB3 (io), 56 PB4 (io), 57 PB5 (io), 58 (I2C1_SCL) PB6 (io), 59 (I2C1_SDA) PB7 (io), 61 PB8 (io), 62 PB9 (io)
part B pins: 1 VLCD, 3 PC14 (OSC32_IN) (in), 4 PC15 (OSC32_OUT) (out), 5 PH0 (XIN) (in), 6 PH1 (XOUT) (out), 7 NRST (in), 12 VSSA (power), 13 VDDA (power), 18 VSS (power), 19 VDD (power), 31 VSS (power), 32 VDD (power), 46 PA13 (SWDIO) (io), 47 VSS (power), 48 VDD (power), 49 PA14 (SWCLK) (out), 60 BOOT0 (in), 63 VSS (power), 64 VDD (power)

## STMUX3040
designator U?
pins: 1 GND1 (power), 2 A0 (io), 3 A1 (io), 4 GND2 (power), 5 VCC1 (power), 6 A2 (io), 7 A3 (io), 8 V33 (power), 9 SEL (in), 10 GND3 (power), 11 A4 (io), 12 A5 (io), 13 VCC2 (power), 14 GND4 (power), 15 A6 (io), 16 A7 (io), 17 GND5 (power), 18 VCC3 (power), 19 GND6 (power), 20 VCC4 (power), 21 GND7 (power), 22 7B2 (io), 23 6B2 (io), 24 5B2 (io), 25 4B2 (io), 26 7B1 (io), 27 6B1 (io), 28 5B1 (io), 29 4B1 (io), 30 VREG (out), 31 3B2 (io), 32 2B2 (io), 33 1B2 (io), 34 0B2 (io), 35 3B1 (io), 36 2B1 (io), 37 1B1 (io), 38 0B1 (io), 39 GND8 (power), 40 VCC5 (power), 41 GND9 (power), 42 VCC6 (power), 43 EPAD

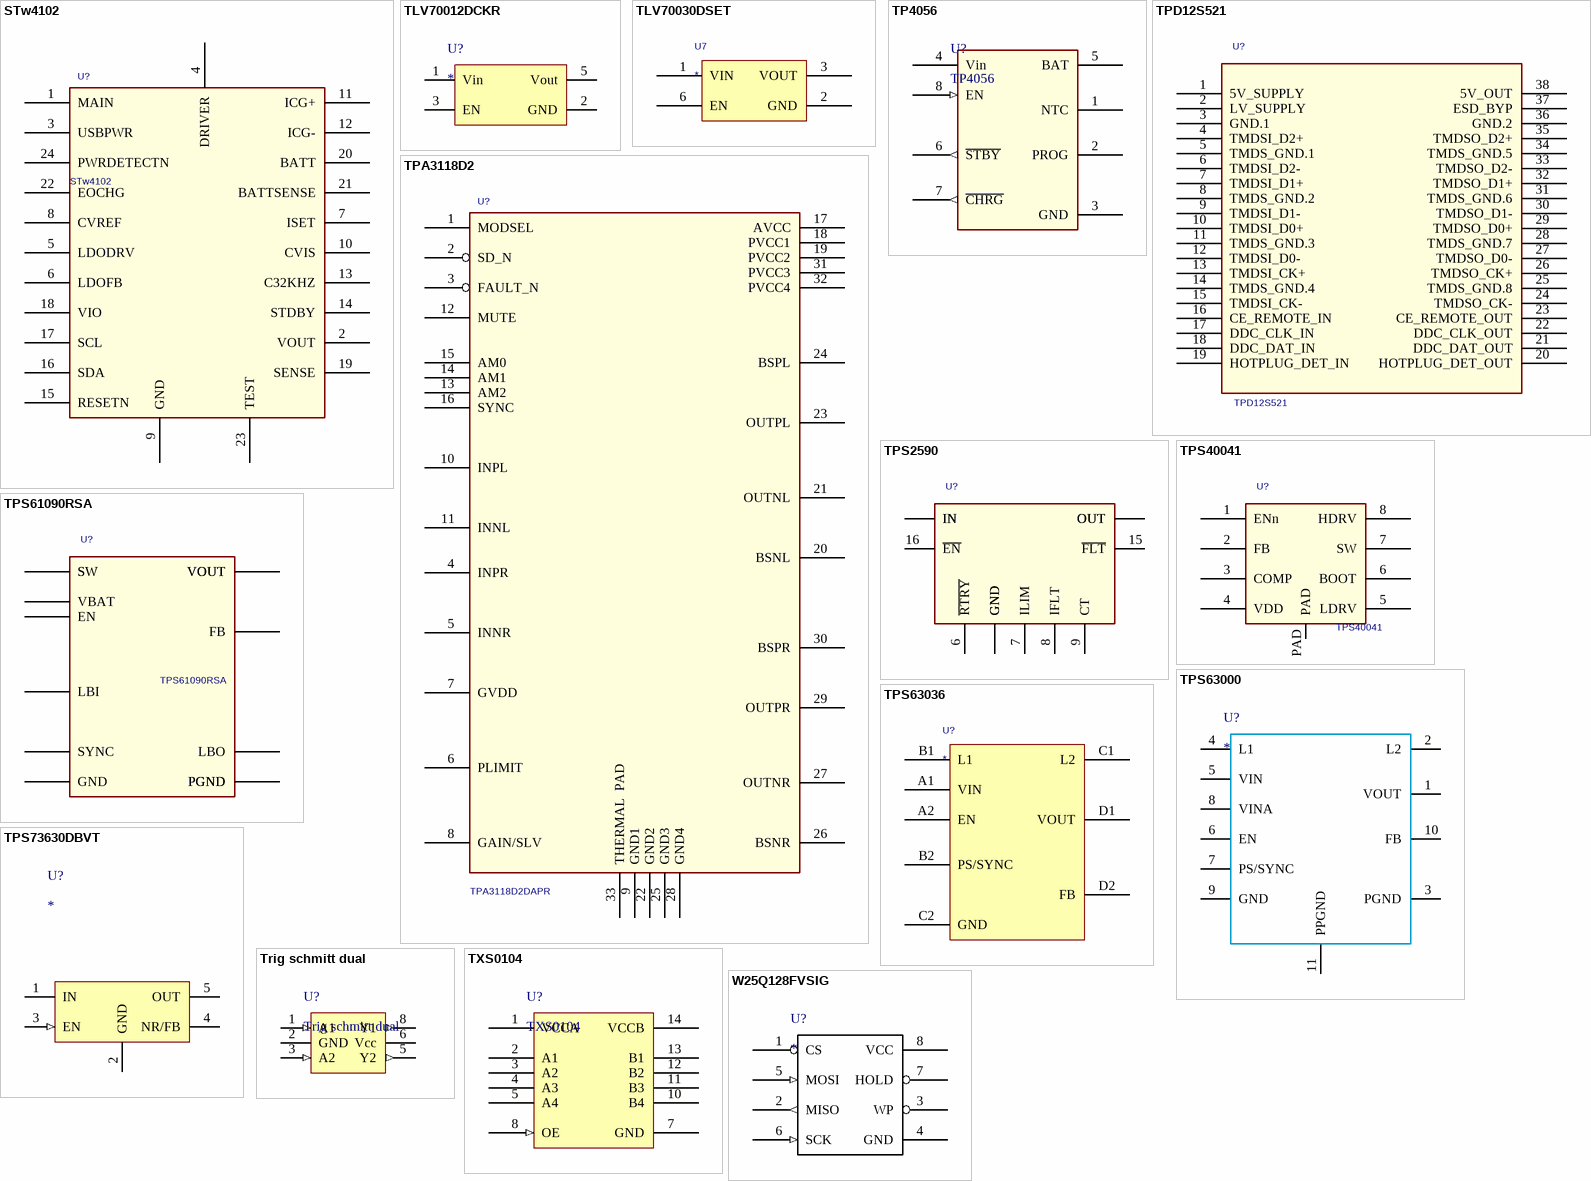
[diagram p21: symbols STw4102 to W25Q128FVSIG]

## STw4102
designator U?
CRITICAL: YES; CLASS: IC; ROHS: YES
pins: 1 MAIN, 2 VOUT, 3 USBPWR, 4 DRIVER, 5 LDODRV, 6 LDOFB, 7 ISET, 8 CVREF, 9 GND, 10 CVIS, 11 ICG+, 12 ICG-, 13 C32KHZ, 14 STDBY, 15 RESETN, 16 SDA, 17 SCL, 18 VIO, 19 SENSE, 20 BATT, 21 BATTSENSE, 22 EOCHG, 23 TEST, 24 PWRDETECTN

## TLV70012DCKR
designator U?
pins: 1 Vin, 2 GND, 3 EN, 5 Vout

## TLV70030DSET
designator U7
200-mA, Low-IQ, Low-Dropout Regulator for Portable Devices
pins: 1 VIN, 2 GND, 3 VOUT, 6 EN

## TP4056
designator U?
Li-Ion Charger
pins: 1 NTC, 2 PROG, 3 GND, 4 Vin (power), 5 BAT, 6 ~{STBY} (out), 7 ~{CHRG} (out), 8 EN (in)

## TPA3118D2
designator U?, comment TPA3118D2DAPR
pins: 1 MODSEL, 2 SD_N, 3 FAULT_N, 4 INPR, 5 INNR, 6 PLIMIT, 7 GVDD, 8 GAIN/SLV, 9 GND1, 10 INPL, 11 INNL, 12 MUTE, 13 AM2, 14 AM1, 15 AM0, 16 SYNC, 17 AVCC, 18 PVCC1, 19 PVCC2, 20 BSNL, 21 OUTNL, 22 GND2, 23 OUTPL, 24 BSPL, 25 GND3, 26 BSNR, 27 OUTNR, 28 GND4, 29 OUTPR, 30 BSPR, 31 PVCC3, 32 PVCC4, 33 THERMAL  PAD

## TPD12S521
designator U?
pins: 1 5V_SUPPLY, 2 LV_SUPPLY, 3 GND.1, 4 TMDSI_D2+, 5 TMDS_GND.1, 6 TMDSI_D2-, 7 TMDSI_D1+, 8 TMDS_GND.2, 9 TMDSI_D1-, 10 TMDSI_D0+, 11 TMDS_GND.3, 12 TMDSI_D0-, 13 TMDSI_CK+, 14 TMDS_GND.4, 15 TMDSI_CK-, 16 CE_REMOTE_IN, 17 DDC_CLK_IN, 18 DDC_DAT_IN, 19 HOTPLUG_DET_IN, 20 HOTPLUG_DET_OUT, 21 DDC_DAT_OUT, 22 DDC_CLK_OUT, 23 CE_REMOTE_OUT, 24 TMDSO_CK-, 25 TMDS_GND.8, 26 TMDSO_CK+, 27 TMDSO_D0-, 28 TMDS_GND.7, 29 TMDSO_D0+, 30 TMDSO_D1-, 31 TMDS_GND.6, 32 TMDSO_D1+, 33 TMDSO_D2-, 34 TMDS_GND.5, 35 TMDSO_D2+, 36 GND.2, 37 ESD_BYP, 38 5V_OUT

## TPS2590
designator U?  (value not drawn)
pins: 1 IN, 2 IN, 3 IN, 4 IN, 5 GND, 6 ~{RTRY}, 7 ILIM, 8 IFLT, 9 CT, 10 OUT, 11 OUT, 12 OUT, 13 GND, 14 GND, 15 ~{FLT}, 16 ~{EN}

## TPS40041
designator U?
pins: 1 ENn, 2 FB, 3 COMP, 4 VDD, 5 LDRV, 6 BOOT, 7 SW, 8 HDRV, PAD

## TPS61090RSA
designator U?
pins: 1 VOUT, 3 SW (power), 4 SW (power), 5 PGND (power), 6 PGND (power), 7 PGND (power), 8 VBAT, 9 LBI (power), 10 SYNC, 11 EN, 12 LBO (power), 13 GND, 14 FB, 15 VOUT, 16 VOUT

## TPS63000
designator U?
footprint VFDFN10
pins: 1 VOUT, 2 L2, 3 PGND, 4 L1, 5 VIN, 6 EN, 7 PS/SYNC, 8 VINA, 9 GND, 10 FB, 11 PPGND

## TPS63036
designator U?
HIGH-EFFICIENCY SINGLE INDUCTOR BUCK-BOOST CONVERTER
pins: A1 VIN, A2 EN, B1 L1, B2 PS/SYNC, C1 L2, C2 GND, D1 VOUT, D2 FB

## TPS73630DBVT
designator U?
IC REG LDO 3V 0.4A SOT23-5
pins: 1 IN (power), 2 GND (power), 3 EN (in), 4 NR/FB, 5 OUT (power)

## Trig schmitt dual
designator U?
pins: 1 A1 (in), 2 GND (power), 3 A2 (in), 5 Y2 (out), 6 Vcc (power), 8 Y1 (out)

## TXS0104
designator U?
Level translator
pins: 1 VCCA (power), 2 A1 (oc), 3 A2 (oc), 4 A3 (oc), 5 A4 (oc), 7 GND, 8 OE (in), 10 B4 (oc), 11 B3 (oc), 12 B2 (oc), 13 B1 (oc), 14 VCCB (power)

## W25Q128FVSIG
designator U?
pins: 1 CS, 2 MISO (out), 3 WP, 4 GND (power), 5 MOSI (in), 6 SCK (in), 7 HOLD, 8 VCC (power)